# Altium schematic symbol library ESE228M050AN2AA.SchLib: 1 symbol
Pins are listed as number, name and electrical type; pins without a type are passive.

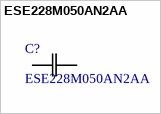
[diagram p0: symbol ESE228M050AN2AA]

## ESE228M050AN2AA
designator C?
No Description Available; Manufacturer_Name: Kemet; Copyright: Copyright (C) 2026 Ultra Librarian. All rights reserved.; Manufacturer_Part_Number: ESE228M050AN2AA
footprint CAP_ESE228M050AN2AA_KEM
pins: 1, 2